# EAGLE library part DP83640 (library electronic-labs)
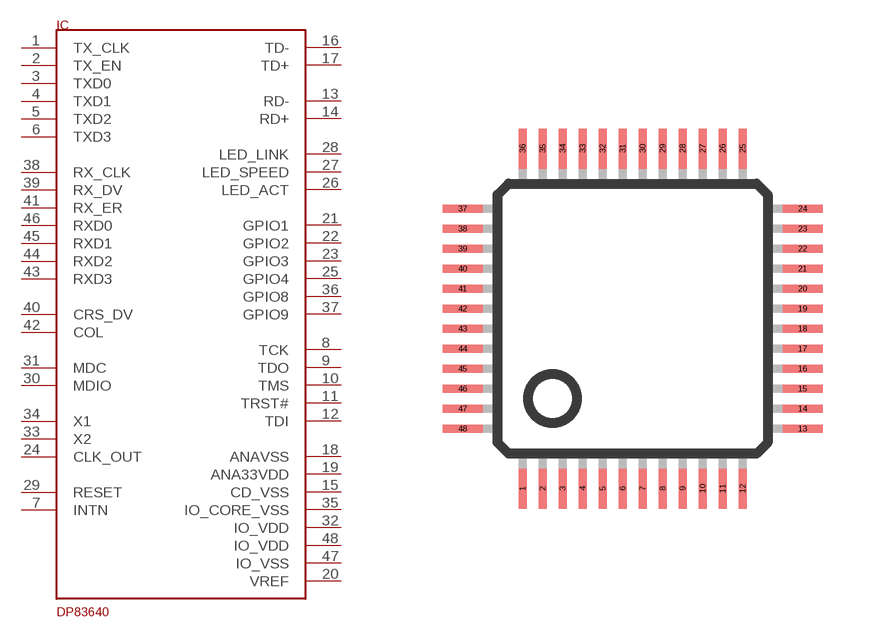
[diagram p12: symbol with the pads of LQFP48; footprint LQFP48]

Designator prefix IC

## DP83640  [LQFP48]
1  TX_CLK
2  TX_EN
3  TXD0
4  TXD1
5  TXD2
6  TXD3
7  INTN
8  TCK
9  TDO
10  TMS
11  TRST#
12  TDI
13  RD-
14  RD+
15  CD_VSS
16  TD-
17  TD+
18  ANAVSS
19  ANA33VDD
20  VREF
21  GPIO1
22  GPIO2
23  GPIO3
24  CLK_OUT
25  GPIO4
26  LED_ACT
27  LED_SPEED
28  LED_LINK
29  RESET
30  MDIO
31  MDC
32  IO_VDD
33  X2
34  X1
35  IO_CORE_VSS
36  GPIO8
37  GPIO9
38  RX_CLK
39  RX_DV
40  CRS_DV
41  RX_ER
42  COL
43  RXD3
44  RXD2
45  RXD1
46  RXD0
47  IO_VSS
48  IO_VDD

## Footprint LQFP48 (pad centres in mm)
48-pin plastic LQFP (FPT-48P-M26) www.fma.fujitsu.com/pdf/e713717.pdf
smd 0.2 x 1: 1 -2.75,-4.25; 2 -2.25,-4.25; 3 -1.75,-4.25; 4 -1.25,-4.25; 5 -0.75,-4.25; 6 -0.25,-4.25; 7 0.25,-4.25; 8 0.75,-4.25; 9 1.25,-4.25; 10 1.75,-4.25; 11 2.25,-4.25; 12 2.75,-4.25; 25 2.75,4.25; 26 2.25,4.25; 27 1.75,4.25; 28 1.25,4.25; 29 0.75,4.25; 30 0.25,4.25; 31 -0.25,4.25; 32 -0.75,4.25; 33 -1.25,4.25; 34 -1.75,4.25; 35 -2.25,4.25; 36 -2.75,4.25
smd 1 x 0.2: 13 4.25,-2.75; 14 4.25,-2.25; 15 4.25,-1.75; 16 4.25,-1.25; 17 4.25,-0.75; 18 4.25,-0.25; 19 4.25,0.25; 20 4.25,0.75; 21 4.25,1.25; 22 4.25,1.75; 23 4.25,2.25; 24 4.25,2.75; 37 -4.25,2.75; 38 -4.25,2.25; 39 -4.25,1.75; 40 -4.25,1.25; 41 -4.25,0.75; 42 -4.25,0.25; 43 -4.25,-0.25; 44 -4.25,-0.75; 45 -4.25,-1.25; 46 -4.25,-1.75; 47 -4.25,-2.25; 48 -4.25,-2.75